# Altium footprint library QFN.PcbLib: 33 footprints (part 3 of 3)
Each footprint in its own frame and in the unit in brackets; x right, y up, seen from the top. Pads: shape width x height; smd on the part's side, far side on the other; paste and mask are expansions set on the pad; w line width, h text height; cw(c..) or ccw(c..) is an arc to the next point about the centre after c.
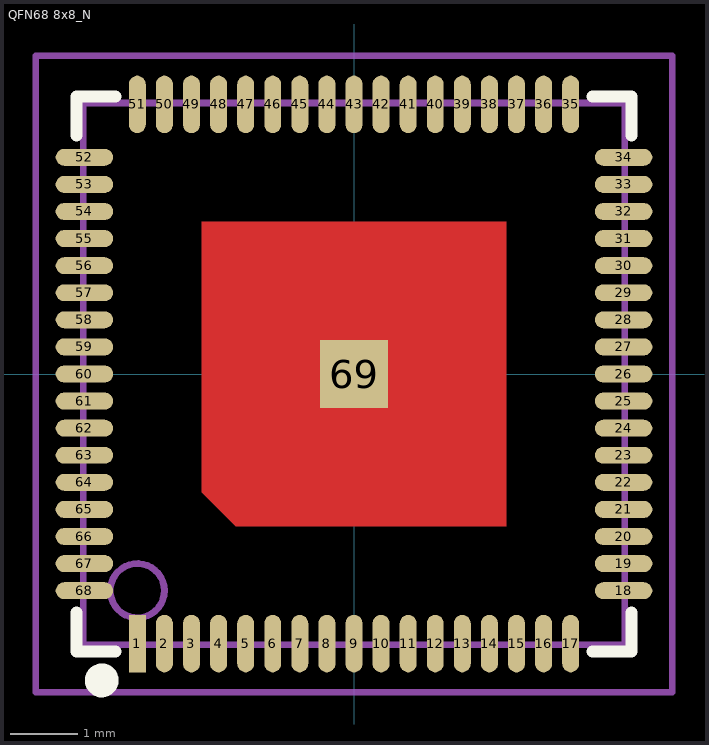
[diagram p2: the footprint, top view; thin cyan lines are the x and y axes]

## QFN68 8x8_N [mm] "68脚，长x宽x高：8x8x0.85mm，脚距：0.4mm"
pads (69):
  rect 0.25x0.85 smd: 1(-3.2,-3.981)
  oval 0.25x0.85 smd: 2(-2.8,-3.981) 3(-2.4,-3.981) 4(-2,-3.981) 5(-1.6,-3.981) 6(-1.2,-3.981) 7(-0.8,-3.981) 8(-0.4,-3.981) 9(0,-3.981) 10(0.4,-3.981) 11(0.8,-3.981) 12(1.2,-3.981) 13(1.6,-3.981) 14(2,-3.981) 15(2.4,-3.981) 16(2.8,-3.981) 17(3.2,-3.981) 35(3.2,3.981) 36(2.8,3.981) 37(2.4,3.981) 38(2,3.981) 39(1.6,3.981) 40(1.2,3.981) 41(0.8,3.981) 42(0.4,3.981) 43(0,3.981) 44(-0.4,3.981) 45(-0.8,3.981) 46(-1.2,3.981) 47(-1.6,3.981) 48(-2,3.981) 49(-2.4,3.981) 50(-2.8,3.981) 51(-3.2,3.981)
  oval 0.85x0.25 smd: 18(3.981,-3.2) 19(3.981,-2.8) 20(3.981,-2.4) 21(3.981,-2) 22(3.981,-1.6) 23(3.981,-1.2) 24(3.981,-0.8) 25(3.981,-0.4) 26(3.981,0) 27(3.981,0.4) 28(3.981,0.8) 29(3.981,1.2) 30(3.981,1.6) 31(3.981,2) 32(3.981,2.4) 33(3.981,2.8) 34(3.981,3.2) 52(-3.981,3.2) 53(-3.981,2.8) 54(-3.981,2.4) 55(-3.981,2) 56(-3.981,1.6) 57(-3.981,1.2) 58(-3.981,0.8) 59(-3.981,0.4) 60(-3.981,0) 61(-3.981,-0.4) 62(-3.981,-0.8) 63(-3.981,-1.2) 64(-3.981,-1.6) 65(-3.981,-2) 66(-3.981,-2.4) 67(-3.981,-2.8) 68(-3.981,-3.2)
  rect 1x1 smd: 69(0,0)
Top Layer:
  region: -2.25,2.25 2.25,2.25 2.25,-2.25 -1.75,-2.25 -2.25,-1.75
Top Overlay:
  circle w0.25: c-3.725,-4.525 r0.125
  lines w0.178: -4.1,-3.525 -4.1,-4.1 -3.525,-4.1 ; -4.1,3.525 -4.1,4.1 -3.525,4.1 ; 3.525,-4.1 4.1,-4.1 4.1,-3.525 ; 3.525,4.1 4.1,4.1 4.1,3.525
Mechanical 13:
  circle w0.1: c-3.2,-3.2 r0.4
  lines w0.1: -4,-4 4,-4 4,4.001 -4.001,4.001 -4,-4
Mechanical 15:
  circle w0.05: c0,0 r0.35
  lines w0.05: -0.5,0 0.5,0 ; 0,-0.5 0,0.5
  lines w0.1: -4.699,-4.699 4.699,-4.699 4.699,4.699 -4.699,4.699 -4.699,-4.699
3D body "QFN68 8x8.STEP": height 0.88, standoff 0, extent -4.001,-4.001 4.001,4.001